# Altium schematic symbol library mopedka ver_1.SCHLIB: 13 symbols
Pins are listed as number, name and electrical type; pins without a type are passive.

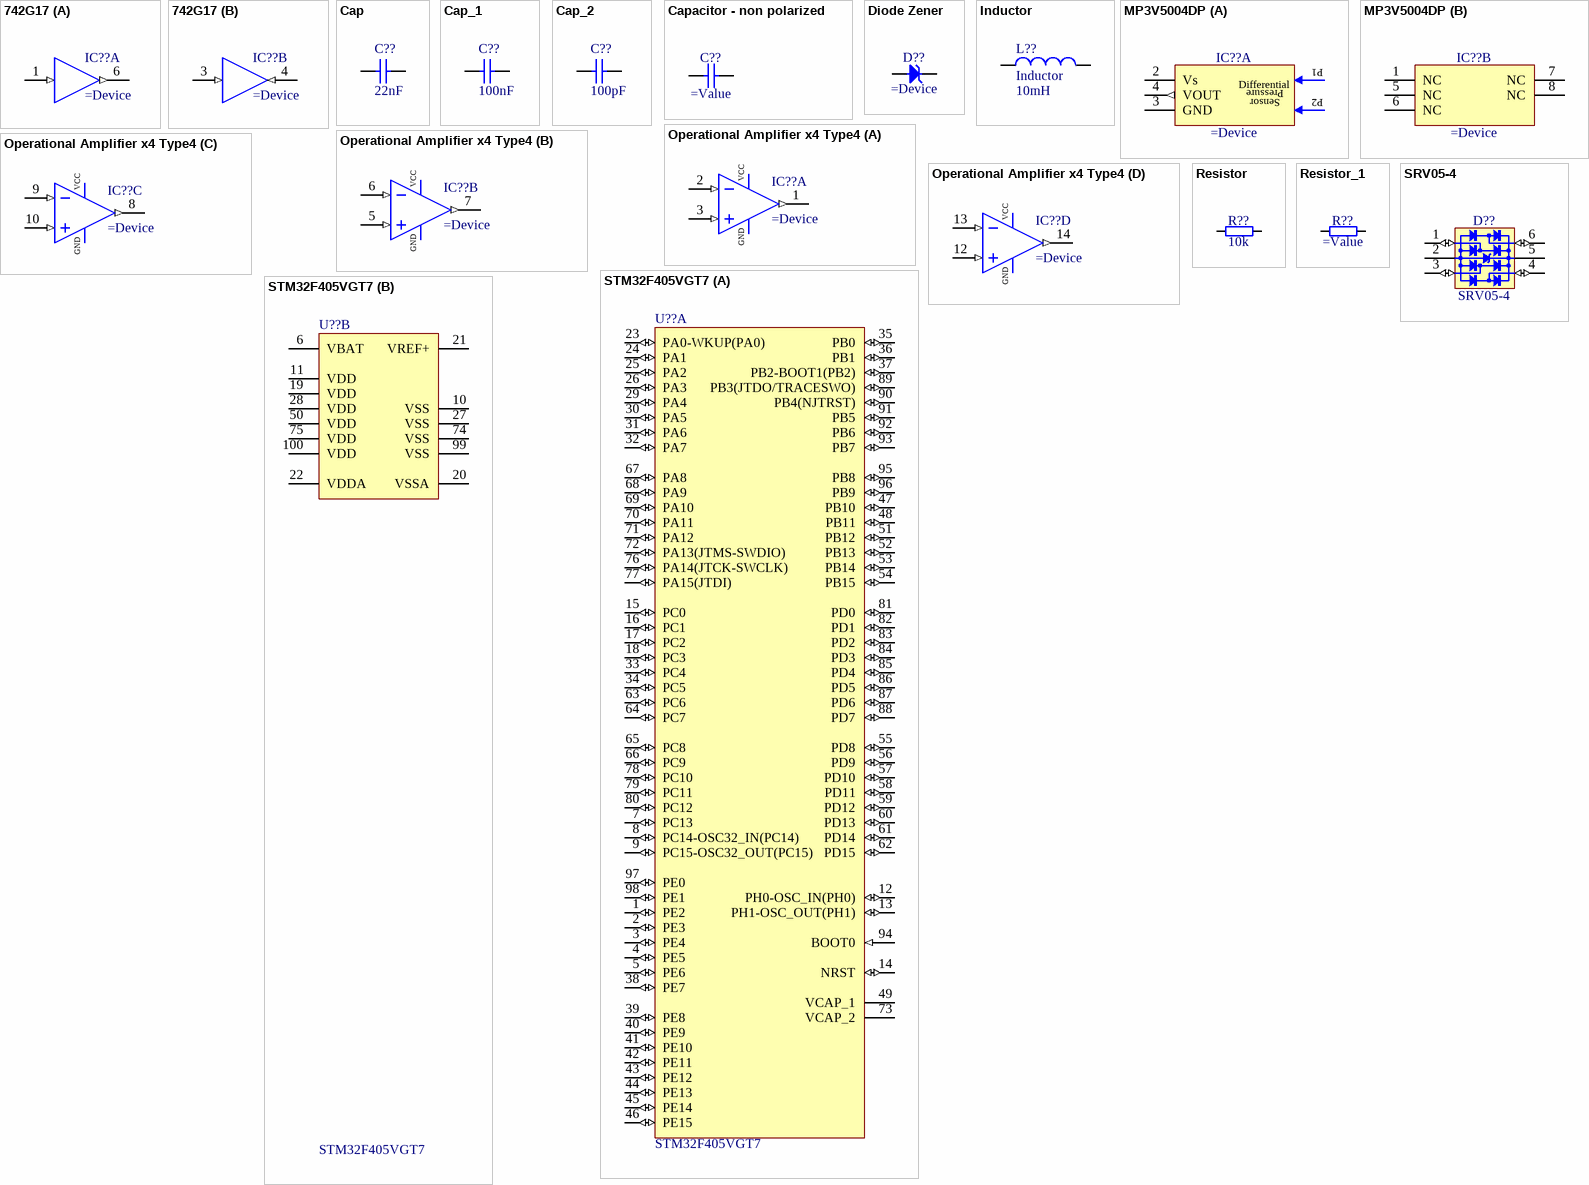
[diagram p0: symbols 742G17 to STM32F405VGT7]

## 742G17
designator IC??
Dual Schmitt-Trigger Buffer
pins on every part: 2 GND (power) hidden to GND, 5 VCC (power) hidden to VDD
part A pins: 1 IN (in), 6 OUT (out)
part B pins: 3 IN (in), 4 OUT (in)

## Cap
designator C??  value 22nF  (hidden comment: Cap)
Capacitor; Published: 8-Jun-2000; LatestRevisionDate: 17-Jul-2002; LatestRevisionNote: Re-released for DXP Platform.; PackageReference: RAD-0.3; Publisher: Altium Limited; PackageDescription: Radial Cap, Thru-Hole; 2 Leads; 0.3 in Pin Spacing
footprint RAD-0.3 (Radial Cap, Thru-Hole; 2 Leads; 0.3 in Pin Spacing)
simulation model CAP (Capacitor)
signal-integrity model Cap
pins: 1, 2

## Cap_1
designator C??, comment value 100nF  (hidden comment: Cap)
Capacitor; Published: 8-Jun-2000; LatestRevisionDate: 17-Jul-2002; LatestRevisionNote: Re-released for DXP Platform.; PackageReference: RAD-0.3; Publisher: Altium Limited; PackageDescription: Radial Cap, Thru-Hole; 2 Leads; 0.3 in Pin Spacing
footprint RAD-0.3 (Radial Cap, Thru-Hole; 2 Leads; 0.3 in Pin Spacing)
simulation model CAP (Capacitor)
signal-integrity model Cap
pins: 1, 2

## Cap_2
designator C??, comment value 100pF  (hidden comment: Cap)
Capacitor; Published: 8-Jun-2000; LatestRevisionDate: 17-Jul-2002; LatestRevisionNote: Re-released for DXP Platform.; PackageReference: RAD-0.3; Publisher: Altium Limited; PackageDescription: Radial Cap, Thru-Hole; 2 Leads; 0.3 in Pin Spacing
footprint RAD-0.3 (Radial Cap, Thru-Hole; 2 Leads; 0.3 in Pin Spacing)
simulation model CAP (Capacitor)
signal-integrity model Cap
pins: 1, 2

## Capacitor - non polarized
designator C??
Non-polarised capacitor
pins: 1, 2

## Diode Zener
designator D??
Zener Diode
pins: 1 C, 2 A

## Inductor
designator L??  value 10mH
Code_IEC: 1005; Published: 8-Jun-2000; LatestRevisionDate: 29-May-2009; LatestRevisionNote: IPC-7351 Footprint Added.; PackageReference: 0402-A; Publisher: Altium Limited; PackageDescription: Chip Inductor; Code_JEITA: 0402
footprint 0402-A (Chip Inductor, Body 1.0x0.5mm, IPC High Density)
footprint INDC1608L (Chip Inductor, Body 1.6x0.8mm, IPC High Density)
footprint 2029 (Chip Inductor, Body 2.0x1.2mm, IPC High Density)
footprint 0603 (Chip Inductor, Body 0.6x0.3mm, IPC High Density)
footprint INDC3216 (Chip Inductor, Body 3.2x1.6mm, IPC High Density)
footprint INDC4532 (Chip Inductor, Body 4.5x3.2mm, IPC High Density)
simulation model INDUCTOR (Inductor)
signal-integrity model Inductor
pins: 1, 2

## MP3V5004DP
designator IC??
Integrated Silicon Pressure Sensor, On-Chip Signal Conditioned, Temperature Compensated and Calibrated
part A pins: 2 Vs (power), 3 GND (power), 4 VOUT (out)
part B pins: 1 NC, 5 NC, 6 NC, 7 NC, 8 NC
part A text: P1; Differential; Pressure; Sensor; P2

## Operational Amplifier x4 Type4
designator IC??
Quad Operational Amplifier
pins on every part: 4 V+ (power) hidden, 11 GND (power) hidden
part A pins: 1 OUT (out), 2 IN- (in), 3 IN+ (in)
part B pins: 5 IN+ (in), 6 IN- (in), 7 OUT (out)
part C pins: 8 OUT (out), 9 IN- (in), 10 IN+ (in)
part D pins: 12 IN+ (in), 13 IN- (in), 14 OUT (out)
part A text: VCC
part B text: VCC
part C text: VCC
part D text: VCC

## Resistor
designator R??, comment 10k
Resistor; Value: 10k
pins: 1, 2

## Resistor_1
designator R??
Resistor
pins: 1, 2

## SRV05-4
designator D??
RailClamps Low Capacitance TVS Diode Array; Device: SRV05-4
pins: 1 I/O1 (io), 2 GND (power), 3 I/O2 (io), 4 I/O3 (io), 5 VBUS (power), 6 I/O4 (io)

## STM32F405VGT7
designator U??
ARM Cortex-M4 32-bit MCU+FPU, 210 DMIPS, 1024 kB Flash, 192 kB Internal RAM, 82 I/Os, 100-pin LQFP, -40 to 105 degC, Tray; Manufacturer: STMicroelectronics; Operating Frequency(F) (Processor speed) (MHz): 168; Internal RAM Size (kB): 192; Supply Voltage(Vcc) max (V): 3.6; I/Os (High Current): 82; Supply Voltage(Vcc) min (V): 1.8; FLASH Size (Prog) (kB): 1024; D/A Converter: 2x12-bit; ComponentLink1Description: Manufacturer URL; PartNumber: STM32F405VGT7; Core: ARM Cortex-M4; ComponentLink2Description: Datasheet; DatasheetVersion: Rev. 4; ComponentLink3URL: http://www.st.com/st-web-ui/static/active/en/resource/technical/document/data_brief/DM00071938.pdf; ComponentLink1URL: http://www.st.com/web/en/home.html; Packing: Tray; ComponentLink2URL: http://www.st.com/st-web-ui/static/active/en/resource/technical/document/datasheet/DM00037051.pdf; PackageReference: LQFP100; ComponentLink3Description: Package Specification; PackageVersion: Rev. 1, 06/2013; Mounting Technology: Surface Mount; PackageDescription: 100-Pin Low Profile Quad Flat Package, 14 x 14 mm Body, 0.5 mm Pitch
footprint STM-LQFP100_L
footprint STM-LQFP100_N
footprint STM-LQFP100_M
footprint STM-LQFP100_V
part A pins: 1 PE2 (io) "PE2/TRACECLK/FSMC_A23/ETH_MII_TXD3/EVENTOUT", 2 PE3 (io) "PE3/TRACED0/FSMC_A19/EVENTOUT", 3 PE4 (io) "PE4/TRACED1/FSMC_A20/DCMI_D4/EVENTOUT", 4 PE5 (io) "PE5/TRACED2/FSMC_A21/TIM9_CH1/DCMI_D6/EVENTOUT", 5 PE6 (io) "PE6/TRACED3/FSMC_A22/TIM9_CH2/DCMI_D7/EVENTOUT", 7 PC13 (io) "PC13/EVENTOUT/RTC_OUT,RTC_TAMP1,RTC_TS", 8 PC14-OSC32_IN(PC14) (io) "PC14-OSC32_IN(PC14)/EVENTOUT/OSC32_IN", 9 PC15-OSC32_OUT(PC15) (io) "PC15-OSC32_OUT(PC15)/EVENTOUT/OSC32_OUT", 12 PH0-OSC_IN(PH0) (io) "PH0-OSC_IN(PH0)/EVENTOUT/OSC_IN", 13 PH1-OSC_OUT(PH1) (io) "PH1-OSC_OUT(PH1)/EVENTOUT/OSC_OUT", 14 NRST (io), 15 PC0 (io) "PC0/OTG_HS_ULPI_STP/EVENTOUT/ADC123_IN10", 16 PC1 (io) "PC1/ETH_MDC/EVENTOUT/ADC123_IN11", 17 PC2 (io) "PC2/SPI2_MISO/OTG_HS_ULPI_DIR/ETH_MII_TXD2/I2S2ext_SD/EVENTOUT/ADC123_IN12", 18 PC3 (io) "PC3/SPI2_MOSI/I2S2_SD/OTG_HS_ULPI_NXT/ETH_MII_TX_CLK/EVENTOUT/ADC123_IN13", 23 PA0-WKUP(PA0) (io) "PA0-WKUP(PA0)/USART2_CTS/UART4_TX/ETH_MII_CRS/TIM2_CH1_ETR/TIM5_CH1/TIM8_ETR/EVENTOUT/ADC123_IN0/WKUP", 24 PA1 (io) "PA1/USART2_RTS/UART4_RX/ETH_RMII_REF_CLK/ETH_MII_RX_CLK/TIM5_CH2/TIM2_CH2/EVENTOUT/ADC123_IN1", 25 PA2 (io) "PA2/USART2_TX/TIM5_CH3/TIM9_CH1/TIM2_CH3/ETH_MDIO/EVENTOUT/ADC123_IN2", 26 PA3 (io) "PA3/USART2_RX/TIM5_CH4/TIM9_CH2/TIM2_CH4/OTG_HS_ULPI_D0/ETH_MII_COL/EVENTOUT/ADC123_IN3", 29 PA4 (io) "PA4/SPI1_NSS/SPI3_NSS/USART2_CK/DCMI_HSYNC/OTG_HS_SOF/I2S3_WS/EVENTOUT/ADC12_IN4/DAC_OUT1", 30 PA5 (io) "PA5/SPI1_SCK/OTG_HS_ULPI_CK/TIM2_CH1_ETR/TIM8_CH1N/EVENTOUT/ADC12_IN5/DAC_OUT2", 31 PA6 (io) "PA6/SPI1_MISO/TIM8_BKIN/TIM13_CH1/DCMI_PIXCLK/TIM3_CH1/TIM1_BKIN/EVENTOUT/ADC12_IN6", 32 PA7 (io) "PA7/SPI1_MOSI/TIM8_CH1N/TIM14_CH1/TIM3_CH2/ETH_MII_RX_DV/TIM1_CH1N/ETH_RMII_CRS_DV/EVENTOUT/ADC12_IN7", 33 PC4 (io) "PC4/ETH_RMII_RX_D0/ETH_MII_RX_D0/EVENTOUT/ADC12_IN14", 34 PC5 (io) "PC5/ETH_RMII_RX_D1/ETH_MII_RX_D1/EVENTOUT/ADC12_IN15", 35 PB0 (io) "PB0/TIM3_CH3/TIM8_CH2N/OTG_HS_ULPI_D1/ETH_MII_RXD2/TIM1_CH2N/EVENTOUT/ADC12_IN8", 36 PB1 (io) "PB1/TIM3_CH4/TIM8_CH3N/OTG_HS_ULPI_D2/ETH_MII_RXD3/TIM1_CH3N/EVENTOUT/ADC12_IN9", 37 PB2-BOOT1(PB2) (io) "PB2-BOOT1(PB2)/EVENTOUT", 38 PE7 (io) "PE7/FSMC_D4/TIM1_ETR/EVENTOUT", 39 PE8 (io) "PE8/FSMC_D5/TIM1_CH1N/EVENTOUT", 40 PE9 (io) "PE9/FSMC_D6/TIM1_CH1/EVENTOUT", 41 PE10 (io) "PE10/FSMC_D7/TIM1_CH2N/EVENTOUT", 42 PE11 (io) "PE11/FSMC_D8/TIM1_CH2/EVENTOUT", 43 PE12 (io) "PE12/FSMC_D9/TIM1_CH3N/EVENTOUT", 44 PE13 (io) "PE13/FSMC_D10/TIM1_CH3/EVENTOUT", 45 PE14 (io) "PE14/FSMC_D11/TIM1_CH4/EVENTOUT", 46 PE15 (io) "PE15/FSMC_D12/TIM1_BKIN/EVENTOUT", 47 PB10 (io) "PB10/SPI2_SCK/I2S2_CK/I2C2_SCL/USART3_TX/OTG_HS_ULPI_D3/ETH_MII_RX_ER/TIM2_CH3/EVENTOUT", 48 PB11 (io) "PB11/I2C2_SDA/USART3_RX/OTG_HS_ULPI_D4/ETH_RMII_TX_EN/ETH_MII_TX_EN/TIM2_CH4/EVENTOUT", 49 VCAP_1 (power), 51 PB12 (io) "PB12/SPI2_NSS/I2S2_WS/I2C2_SMBA/USART3_CK/TIM1_BKIN/CAN2_RX/OTG_HS_ULPI_D5/ETH_RMII_TXD0/ETH_MII_TXD0/OTG_HS_ID/EVENTOUT", 52 PB13 (io) "PB13/SPI2_SCK/I2S2_CK/USART3_CTS/TIM1_CH1N/CAN2_TX/OTG_HS_ULPI_D6/ETH_RMII_TXD1/ETH_MII_TXD1/EVENTOUT/OTG_HS_VBUS", 53 PB14 (io) "PB14/SPI2_MISO/TIM1_CH2N/TIM12_CH1/OTG_HS_DM/USART3_RTS/TIM8_CH2N/I2S2ext_SD/EVENTOUT", 54 PB15 (io) "PB15/SPI2_MOSI/I2S2_SD/TIM1_CH3N/TIM8_CH3N/TIM12_CH2/OTG_HS_DP/EVENTOUT/RTC_REFIN", 55 PD8 (io) "PD8/FSMC_D13/USART3_TX/EVENTOUT", 56 PD9 (io) "PD9/FSMC_D14/USART3_RX/EVENTOUT", 57 PD10 (io) "PD10/FSMC_D15/USART3_CK/EVENTOUT", 58 PD11 (io) "PD11/FSMC_CLE/FSMC_A16/USART3_CTS/EVENTOUT", 59 PD12 (io) "PD12/FSMC_ALE/FSMC_A17/TIM4_CH1/USART3_RTS/EVENTOUT", 60 PD13 (io) "PD13/FSMC_A18/TIM4_CH2/EVENTOUT", 61 PD14 (io) "PD14/FSMC_D0/TIM4_CH3/EVENTOUT", 62 PD15 (io) "PD15/FSMC_D1/TIM4_CH4/EVENTOUT", 63 PC6 (io) "PC6/I2S2_MCK/TIM8_CH1/SDIO_D6/USART6_TX/DCMI_D0/TIM3_CH1/EVENTOUT", 64 PC7 (io) "PC7/I2S3_MCK/TIM8_CH2/SDIO_D7/USART6_RX/DCMI_D1/TIM3_CH2/EVENTOUT", 65 PC8 (io) "PC8/TIM8_CH3/SDIO_D0/TIM3_CH3/USART6_CK/DCMI_D2/EVENTOUT", 66 PC9 (io) "PC9/I2S_CKIN/MCO2/TIM8_CH4/SDIO_D1/I2C3_SDA/DCMI_D3/TIM3_CH4/EVENTOUT", 67 PA8 (io) "PA8/MCO1/USART1_CK/TIM1_CH1/I2C3_SCL/OTG_FS_SOF/EVENTOUT", 68 PA9 (io) "PA9/USART1_TX/TIM1_CH2/I2C3_SMBA/DCMI_D0/EVENTOUT/OTG_FS_VBUS", 69 PA10 (io) "PA10/USART1_RX/TIM1_CH3/OTG_FS_ID/DCMI_D1/EVENTOUT", 70 PA11 (io) "PA11/USART1_CTS/CAN1_RX/TIM1_CH4/OTG_FS_DM/EVENTOUT", 71 PA12 (io) "PA12/USART1_RTS/CAN1_TX/TIM1_ETR/OTG_FS_DP/EVENTOUT", 72 PA13(JTMS-SWDIO) (io) "PA13(JTMS-SWDIO)/JTMS-SWDIO/EVENTOUT", 73 VCAP_2 (power), 76 PA14(JTCK-SWCLK) (io) "PA14(JTCK-SWCLK)/JTCK-SWCLK/EVENTOUT", 77 PA15(JTDI) (io) "PA15(JTDI)/JTDI/SPI3_NSS/I2S3_WS/TIM2_CH1_ETR/SPI1_NSS/EVENTOUT", 78 PC10 (io) "PC10/SPI3_SCK/I2S3_CK/UART4_TX/SDIO_D2/DCMI_D8/USART3_TX/EVENTOUT", 79 PC11 (io) "PC11/UART4_RX/SPI3_MISO/SDIO_D3/DCMI_D4/USART3_RX/I2S3ext_SD/EVENTOUT", 80 PC12 (io) "PC12/UART5_TX/SDIO_CK/DCMI_D9/SPI3_MOSI/I2S3_SD/USART3_CK/EVENTOUT", 81 PD0 (io) "PD0/FSMC_D2/CAN1_RX/EVENTOUT", 82 PD1 (io) "PD1/FSMC_D3/CAN1_TX/EVENTOUT", 83 PD2 (io) "PD2/TIM3_ETR/UART5_RX/SDIO_CMD/DCMI_D11/EVENTOUT", 84 PD3 (io) "PD3/FSMC_CLK/USART2_CTS/EVENTOUT", 85 PD4 (io) "PD4/FSMC_NOE/USART2_RTS/EVENTOUT", 86 PD5 (io) "PD5/FSMC_NWE/USART2_TX/EVENTOUT", 87 PD6 (io) "PD6/FSMC_NWAIT/USART2_RX/EVENTOUT", 88 PD7 (io) "PD7/USART2_CK/FSMC_NE1/FSMC_NCE2/EVENTOUT", 89 PB3(JTDO/TRACESWO) (io) "PB3(JTDO/TRACESWO)/JTDO/TRACESWO/SPI3_SCK/I2S3_CK/TIM2_CH2/SPI1_SCK/EVENTOUT", 90 PB4(NJTRST) (io) "PB4(NJTRST)/NJTRST/SPI3_MISO/TIM3_CH1/SPI1_MISO/I2S3ext_SD/EVENTOUT", 91 PB5 (io) "PB5/I2C1_SMBA/CAN2_RX/OTG_HS_ULPI_D7/ETH_PPS_OUT/TIM3_CH2/SPI1_MOSI/SPI3_MOSI/DCMI_D10/I2S3_SD/EVENTOUT", 92 PB6 (io) "PB6/I2C1_SCL/TIM4_CH1/CAN2_TX/DCMI_D5/USART1_TX/EVENTOUT", 93 PB7 (io) "PB7/I2C1_SDA/FSMC_NL/DCMI_VSYNC/USART1_RX/TIM4_CH2/EVENTOUT", 94 BOOT0 (in) "BOOT0/VPP", 95 PB8 (io) "PB8/TIM4_CH3/SDIO_D4/TIM10_CH1/DCMI_D6/ETH_MII_TXD3/I2C1_SCL/CAN1_RX/EVENTOUT", 96 PB9 (io) "PB9/SPI2_NSS/I2S2_WS/TIM4_CH4/TIM11_CH1/SDIO_D5/DCMI_D7/I2C1_SDA/CAN1_TX/EVENTOUT", 97 PE0 (io) "PE0/TIM4_ETR/FSMC_NBL0/DCMI_D2/EVENTOUT", 98 PE1 (io) "PE1/FSMC_NBL1/DCMI_D3/EVENTOUT"
part B pins: 6 VBAT (power), 10 VSS (power), 11 VDD (power), 19 VDD (power), 20 VSSA (power), 21 VREF+ (power), 22 VDDA (power), 27 VSS (power), 28 VDD (power), 50 VDD (power), 74 VSS (power), 75 VDD (power), 99 VSS (power), 100 VDD (power)